# Altium footprint library CQFP_Sq_63P_Side_M.PcbLib: 12 footprints
Each footprint in its own frame and in the unit in brackets; x right, y up, seen from the top. Pads: shape width x height; smd on the part's side, far side on the other; paste and mask are expansions set on the pad; w line width, h text height; cw(c..) or ccw(c..) is an arc to the next point about the centre after c.
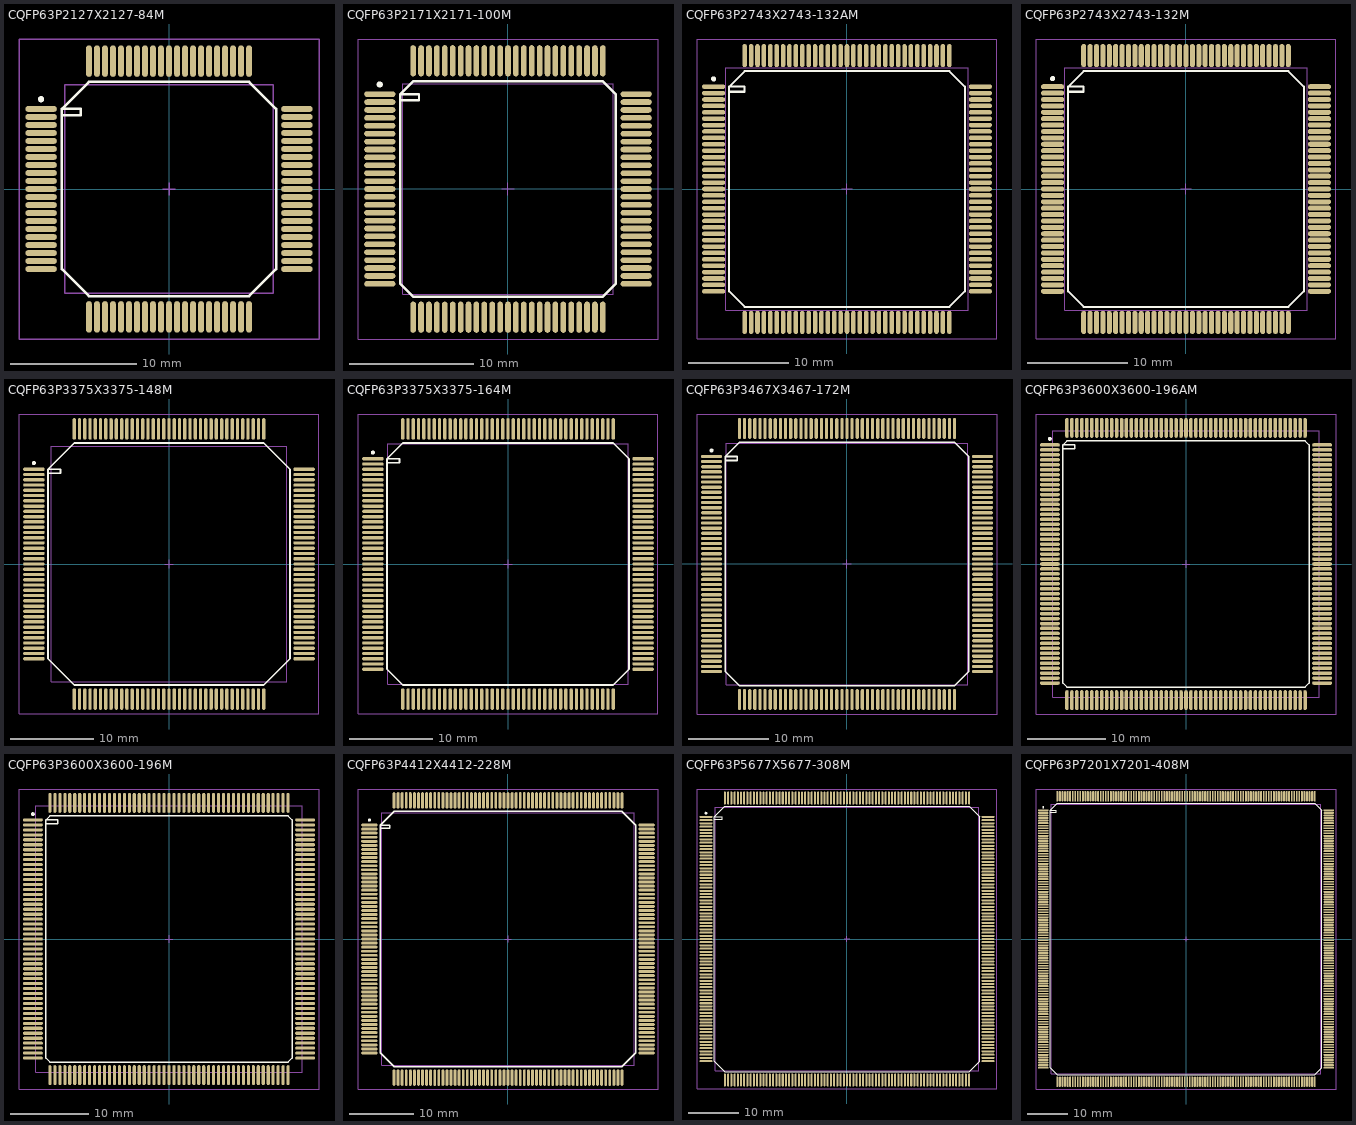
[diagram p0: the footprints below, top view; thin cyan lines are the x and y axes]

## CQFP63P2127X2127-84M [mm] "CQFP, 84-Leads, Body 16.5x16.5mm; Pitch 0.635mm, Gullwing Leadform, IPC Low Density"
height 2.4
pads (84):
  oval 2.5x0.45 smd: 1(-10.15,6.35) 2(-10.15,5.715) 3(-10.15,5.08) 4(-10.15,4.445) 5(-10.15,3.81) 6(-10.15,3.175) 7(-10.15,2.54) 8(-10.15,1.905) 9(-10.15,1.27) 10(-10.15,0.635) 11(-10.15,0) 12(-10.15,-0.635) 13(-10.15,-1.27) 14(-10.15,-1.905) 15(-10.15,-2.54) 16(-10.15,-3.175) 17(-10.15,-3.81) 18(-10.15,-4.445) 19(-10.15,-5.08) 20(-10.15,-5.715) 21(-10.15,-6.35) 43(10.15,-6.35) 44(10.15,-5.715) 45(10.15,-5.08) 46(10.15,-4.445) 47(10.15,-3.81) 48(10.15,-3.175) 49(10.15,-2.54) 50(10.15,-1.905) 51(10.15,-1.27) 52(10.15,-0.635) 53(10.15,0) 54(10.15,0.635) 55(10.15,1.27) 56(10.15,1.905) 57(10.15,2.54) 58(10.15,3.175) 59(10.15,3.81) 60(10.15,4.445) 61(10.15,5.08) 62(10.15,5.715) 63(10.15,6.35)
  oval 0.45x2.5 smd: 22(-6.35,-10.15) 23(-5.715,-10.15) 24(-5.08,-10.15) 25(-4.445,-10.15) 26(-3.81,-10.15) 27(-3.175,-10.15) 28(-2.54,-10.15) 29(-1.905,-10.15) 30(-1.27,-10.15) 31(-0.635,-10.15) 32(0,-10.15) 33(0.635,-10.15) 34(1.27,-10.15) 35(1.905,-10.15) 36(2.54,-10.15) 37(3.175,-10.15) 38(3.81,-10.15) 39(4.445,-10.15) 40(5.08,-10.15) 41(5.715,-10.15) 42(6.35,-10.15) 64(6.35,10.15) 65(5.715,10.15) 66(5.08,10.15) 67(4.445,10.15) 68(3.81,10.15) 69(3.175,10.15) 70(2.54,10.15) 71(1.905,10.15) 72(1.27,10.15) 73(0.635,10.15) 74(0,10.15) 75(-0.635,10.15) 76(-1.27,10.15) 77(-1.905,10.15) 78(-2.54,10.15) 79(-3.175,10.15) 80(-3.81,10.15) 81(-4.445,10.15) 82(-5.08,10.15) 83(-5.715,10.15) 84(-6.35,10.15)
Top Overlay:
  circle w0.25: c-10.15,7.125 r0.125
  lines w0.2: -8.5,5.85 -7,5.85 -7,6.35 -8.5,6.35 ; -8.5,6.35 -6.35,8.5 6.35,8.5 8.5,6.35 8.5,-6.35 6.35,-8.5 -6.35,-8.5 -8.5,-6.35 -8.5,6.35
Mechanical 13:
  lines w0.1: -8.255,-8.255 8.255,-8.255 8.255,8.255 -8.255,8.255 -8.255,-8.255
Mechanical 15:
  lines w0.1: -0.5,0 0.5,0 ; 0,-0.5 0,0.5 ; -11.9,-11.9 11.9,-11.9 11.9,11.9 -11.9,11.9 -11.9,-11.9
3D body: height 2.4, standoff 0, extent -8.255,-8.255 8.255,8.255

## CQFP63P2171X2171-100M [mm] "100-Pin Ceramic Quad Flat Pack 0.635 mm Pitch"
height 3.2
pads (100):
  oval 2.5x0.45 smd: 1(-10.3,7.62) 2(-10.3,6.985) 3(-10.3,6.35) 4(-10.3,5.715) 5(-10.3,5.08) 6(-10.3,4.445) 7(-10.3,3.81) 8(-10.3,3.175) 9(-10.3,2.54) 10(-10.3,1.905) 11(-10.3,1.27) 12(-10.3,0.635) 13(-10.3,0) 14(-10.3,-0.635) 15(-10.3,-1.27) 16(-10.3,-1.905) 17(-10.3,-2.54) 18(-10.3,-3.175) 19(-10.3,-3.81) 20(-10.3,-4.445) 21(-10.3,-5.08) 22(-10.3,-5.715) 23(-10.3,-6.35) 24(-10.3,-6.985) 25(-10.3,-7.62) 51(10.3,-7.62) 52(10.3,-6.985) 53(10.3,-6.35) 54(10.3,-5.715) 55(10.3,-5.08) 56(10.3,-4.445) 57(10.3,-3.81) 58(10.3,-3.175) 59(10.3,-2.54) 60(10.3,-1.905) 61(10.3,-1.27) 62(10.3,-0.635) 63(10.3,0) 64(10.3,0.635) 65(10.3,1.27) 66(10.3,1.905) 67(10.3,2.54) 68(10.3,3.175) 69(10.3,3.81) 70(10.3,4.445) 71(10.3,5.08) 72(10.3,5.715) 73(10.3,6.35) 74(10.3,6.985) 75(10.3,7.62)
  oval 0.45x2.5 smd: 26(-7.62,-10.3) 27(-6.985,-10.3) 28(-6.35,-10.3) 29(-5.715,-10.3) 30(-5.08,-10.3) 31(-4.445,-10.3) 32(-3.81,-10.3) 33(-3.175,-10.3) 34(-2.54,-10.3) 35(-1.905,-10.3) 36(-1.27,-10.3) 37(-0.635,-10.3) 38(0,-10.3) 39(0.635,-10.3) 40(1.27,-10.3) 41(1.905,-10.3) 42(2.54,-10.3) 43(3.175,-10.3) 44(3.81,-10.3) 45(4.445,-10.3) 46(5.08,-10.3) 47(5.715,-10.3) 48(6.35,-10.3) 49(6.985,-10.3) 50(7.62,-10.3) 76(7.62,10.3) 77(6.985,10.3) 78(6.35,10.3) 79(5.715,10.3) 80(5.08,10.3) 81(4.445,10.3) 82(3.81,10.3) 83(3.175,10.3) 84(2.54,10.3) 85(1.905,10.3) 86(1.27,10.3) 87(0.635,10.3) 88(0,10.3) 89(-0.635,10.3) 90(-1.27,10.3) 91(-1.905,10.3) 92(-2.54,10.3) 93(-3.175,10.3) 94(-3.81,10.3) 95(-4.445,10.3) 96(-5.08,10.3) 97(-5.715,10.3) 98(-6.35,10.3) 99(-6.985,10.3) 100(-7.62,10.3)
Top Overlay:
  circle w0.25: c-10.3,8.395 r0.125
  lines w0.2: -8.65,7.12 -7.15,7.12 -7.15,7.62 -8.65,7.62 ; -8.65,7.62 -7.62,8.65 7.62,8.65 8.65,7.62 8.65,-7.62 7.62,-8.65 -7.62,-8.65 -8.65,-7.62 -8.65,7.62
Mechanical 13:
  lines w0.1: -8.475,-8.475 8.475,-8.475 8.475,8.475 -8.475,8.475 -8.475,-8.475
Mechanical 15:
  lines w0.1: -0.5,0 0.5,0 ; 0,-0.5 0,0.5 ; -12.05,-12.05 12.05,-12.05 12.05,12.05 -12.05,12.05 -12.05,-12.05
3D body: height 3.2, standoff 0, extent -8.475,-8.475 8.475,8.475

## CQFP63P2743X2743-132AM [mm] "CQFP, 132-Leads, Body 24x24mm; Pitch 0.635mm, Gullwing Leadform, IPC Low Density"
height 3
pads (132):
  oval 2.3x0.45 smd: 1(-13.25,10.16) 2(-13.25,9.525) 3(-13.25,8.89) 4(-13.25,8.255) 5(-13.25,7.62) 6(-13.25,6.985) 7(-13.25,6.35) 8(-13.25,5.715) 9(-13.25,5.08) 10(-13.25,4.445) 11(-13.25,3.81) 12(-13.25,3.175) 13(-13.25,2.54) 14(-13.25,1.905) 15(-13.25,1.27) 16(-13.25,0.635) 17(-13.25,0) 18(-13.25,-0.635) 19(-13.25,-1.27) 20(-13.25,-1.905) 21(-13.25,-2.54) 22(-13.25,-3.175) 23(-13.25,-3.81) 24(-13.25,-4.445) 25(-13.25,-5.08) 26(-13.25,-5.715) 27(-13.25,-6.35) 28(-13.25,-6.985) 29(-13.25,-7.62) 30(-13.25,-8.255) 31(-13.25,-8.89) 32(-13.25,-9.525) 33(-13.25,-10.16) 67(13.25,-10.16) 68(13.25,-9.525) 69(13.25,-8.89) 70(13.25,-8.255) 71(13.25,-7.62) 72(13.25,-6.985) 73(13.25,-6.35) 74(13.25,-5.715) 75(13.25,-5.08) 76(13.25,-4.445) 77(13.25,-3.81) 78(13.25,-3.175) 79(13.25,-2.54) 80(13.25,-1.905) 81(13.25,-1.27) 82(13.25,-0.635) 83(13.25,0) 84(13.25,0.635) 85(13.25,1.27) 86(13.25,1.905) 87(13.25,2.54) 88(13.25,3.175) 89(13.25,3.81) 90(13.25,4.445) 91(13.25,5.08) 92(13.25,5.715) 93(13.25,6.35) 94(13.25,6.985) 95(13.25,7.62) 96(13.25,8.255) 97(13.25,8.89) 98(13.25,9.525) 99(13.25,10.16)
  oval 0.45x2.3 smd: 34(-10.16,-13.25) 35(-9.525,-13.25) 36(-8.89,-13.25) 37(-8.255,-13.25) 38(-7.62,-13.25) 39(-6.985,-13.25) 40(-6.35,-13.25) 41(-5.715,-13.25) 42(-5.08,-13.25) 43(-4.445,-13.25) 44(-3.81,-13.25) 45(-3.175,-13.25) 46(-2.54,-13.25) 47(-1.905,-13.25) 48(-1.27,-13.25) 49(-0.635,-13.25) 50(0,-13.25) 51(0.635,-13.25) 52(1.27,-13.25) 53(1.905,-13.25) 54(2.54,-13.25) 55(3.175,-13.25) 56(3.81,-13.25) 57(4.445,-13.25) 58(5.08,-13.25) 59(5.715,-13.25) 60(6.35,-13.25) 61(6.985,-13.25) 62(7.62,-13.25) 63(8.255,-13.25) 64(8.89,-13.25) 65(9.525,-13.25) 66(10.16,-13.25) 100(10.16,13.25) 101(9.525,13.25) 102(8.89,13.25) 103(8.255,13.25) 104(7.62,13.25) 105(6.985,13.25) 106(6.35,13.25) 107(5.715,13.25) 108(5.08,13.25) 109(4.445,13.25) 110(3.81,13.25) 111(3.175,13.25) 112(2.54,13.25) 113(1.905,13.25) 114(1.27,13.25) 115(0.635,13.25) 116(0,13.25) 117(-0.635,13.25) 118(-1.27,13.25) 119(-1.905,13.25) 120(-2.54,13.25) 121(-3.175,13.25) 122(-3.81,13.25) 123(-4.445,13.25) 124(-5.08,13.25) 125(-5.715,13.25) 126(-6.35,13.25) 127(-6.985,13.25) 128(-7.62,13.25) 129(-8.255,13.25) 130(-8.89,13.25) 131(-9.525,13.25) 132(-10.16,13.25)
Top Overlay:
  circle w0.25: c-13.25,10.935 r0.125
  lines w0.2: -11.7,9.66 -10.2,9.66 -10.2,10.16 -11.7,10.16 ; -11.7,10.16 -10.16,11.7 10.16,11.7 11.7,10.16 11.7,-10.16 10.16,-11.7 -10.16,-11.7 -11.7,-10.16 -11.7,10.16
Mechanical 13:
  lines w0.1: -12.035,-12.035 12.035,-12.035 12.035,12.035 -12.035,12.035 -12.035,-12.035
Mechanical 15:
  lines w0.1: -0.5,0 0.5,0 ; 0,-0.5 0,0.5 ; -14.9,-14.9 14.9,-14.9 14.9,14.9 -14.9,14.9 -14.9,-14.9
3D body: height 3, standoff 0, extent -12.035,-12.035 12.035,12.035

## CQFP63P2743X2743-132M [mm] "CQFP, 132-Leads, Body 24x24mm; Pitch 0.635mm, Gullwing Leadform, IPC Low Density"
height 3.6
pads (132):
  oval 2.3x0.5 smd: 1(-13.25,10.16) 2(-13.25,9.525) 3(-13.25,8.89) 4(-13.25,8.255) 5(-13.25,7.62) 6(-13.25,6.985) 7(-13.25,6.35) 8(-13.25,5.715) 9(-13.25,5.08) 10(-13.25,4.445) 11(-13.25,3.81) 12(-13.25,3.175) 13(-13.25,2.54) 14(-13.25,1.905) 15(-13.25,1.27) 16(-13.25,0.635) 17(-13.25,0) 18(-13.25,-0.635) 19(-13.25,-1.27) 20(-13.25,-1.905) 21(-13.25,-2.54) 22(-13.25,-3.175) 23(-13.25,-3.81) 24(-13.25,-4.445) 25(-13.25,-5.08) 26(-13.25,-5.715) 27(-13.25,-6.35) 28(-13.25,-6.985) 29(-13.25,-7.62) 30(-13.25,-8.255) 31(-13.25,-8.89) 32(-13.25,-9.525) 33(-13.25,-10.16) 67(13.25,-10.16) 68(13.25,-9.525) 69(13.25,-8.89) 70(13.25,-8.255) 71(13.25,-7.62) 72(13.25,-6.985) 73(13.25,-6.35) 74(13.25,-5.715) 75(13.25,-5.08) 76(13.25,-4.445) 77(13.25,-3.81) 78(13.25,-3.175) 79(13.25,-2.54) 80(13.25,-1.905) 81(13.25,-1.27) 82(13.25,-0.635) 83(13.25,0) 84(13.25,0.635) 85(13.25,1.27) 86(13.25,1.905) 87(13.25,2.54) 88(13.25,3.175) 89(13.25,3.81) 90(13.25,4.445) 91(13.25,5.08) 92(13.25,5.715) 93(13.25,6.35) 94(13.25,6.985) 95(13.25,7.62) 96(13.25,8.255) 97(13.25,8.89) 98(13.25,9.525) 99(13.25,10.16)
  oval 0.5x2.3 smd: 34(-10.16,-13.25) 35(-9.525,-13.25) 36(-8.89,-13.25) 37(-8.255,-13.25) 38(-7.62,-13.25) 39(-6.985,-13.25) 40(-6.35,-13.25) 41(-5.715,-13.25) 42(-5.08,-13.25) 43(-4.445,-13.25) 44(-3.81,-13.25) 45(-3.175,-13.25) 46(-2.54,-13.25) 47(-1.905,-13.25) 48(-1.27,-13.25) 49(-0.635,-13.25) 50(0,-13.25) 51(0.635,-13.25) 52(1.27,-13.25) 53(1.905,-13.25) 54(2.54,-13.25) 55(3.175,-13.25) 56(3.81,-13.25) 57(4.445,-13.25) 58(5.08,-13.25) 59(5.715,-13.25) 60(6.35,-13.25) 61(6.985,-13.25) 62(7.62,-13.25) 63(8.255,-13.25) 64(8.89,-13.25) 65(9.525,-13.25) 66(10.16,-13.25) 100(10.16,13.25) 101(9.525,13.25) 102(8.89,13.25) 103(8.255,13.25) 104(7.62,13.25) 105(6.985,13.25) 106(6.35,13.25) 107(5.715,13.25) 108(5.08,13.25) 109(4.445,13.25) 110(3.81,13.25) 111(3.175,13.25) 112(2.54,13.25) 113(1.905,13.25) 114(1.27,13.25) 115(0.635,13.25) 116(0,13.25) 117(-0.635,13.25) 118(-1.27,13.25) 119(-1.905,13.25) 120(-2.54,13.25) 121(-3.175,13.25) 122(-3.81,13.25) 123(-4.445,13.25) 124(-5.08,13.25) 125(-5.715,13.25) 126(-6.35,13.25) 127(-6.985,13.25) 128(-7.62,13.25) 129(-8.255,13.25) 130(-8.89,13.25) 131(-9.525,13.25) 132(-10.16,13.25)
Top Overlay:
  circle w0.25: c-13.25,10.96 r0.125
  lines w0.2: -11.7,9.66 -10.2,9.66 -10.2,10.16 -11.7,10.16 ; -11.7,10.16 -10.16,11.7 10.16,11.7 11.7,10.16 11.7,-10.16 10.16,-11.7 -10.16,-11.7 -11.7,-10.16 -11.7,10.16
Mechanical 13:
  lines w0.1: -12.035,-12.035 12.035,-12.035 12.035,12.035 -12.035,12.035 -12.035,-12.035
Mechanical 15:
  lines w0.1: -0.5,0 0.5,0 ; 0,-0.5 0,0.5 ; -14.9,-14.9 14.9,-14.9 14.9,14.9 -14.9,14.9 -14.9,-14.9
3D body: height 3.6, standoff 0, extent -12.035,-12.035 12.035,12.035

## CQFP63P3375X3375-148M [mm] "CQFP, 148-Leads, Body 28.5x28.5mm; Pitch 0.635mm, Gullwing Leadform, IPC Low Density"
height 3.1
pads (148):
  oval 2.6x0.4 smd: 1(-16.3,11.43) 2(-16.3,10.795) 3(-16.3,10.16) 4(-16.3,9.525) 5(-16.3,8.89) 6(-16.3,8.255) 7(-16.3,7.62) 8(-16.3,6.985) 9(-16.3,6.35) 10(-16.3,5.715) 11(-16.3,5.08) 12(-16.3,4.445) 13(-16.3,3.81) 14(-16.3,3.175) 15(-16.3,2.54) 16(-16.3,1.905) 17(-16.3,1.27) 18(-16.3,0.635) 19(-16.3,0) 20(-16.3,-0.635) 21(-16.3,-1.27) 22(-16.3,-1.905) 23(-16.3,-2.54) 24(-16.3,-3.175) 25(-16.3,-3.81) 26(-16.3,-4.445) 27(-16.3,-5.08) 28(-16.3,-5.715) 29(-16.3,-6.35) 30(-16.3,-6.985) 31(-16.3,-7.62) 32(-16.3,-8.255) 33(-16.3,-8.89) 34(-16.3,-9.525) 35(-16.3,-10.16) 36(-16.3,-10.795) 37(-16.3,-11.43) 75(16.3,-11.43) 76(16.3,-10.795) 77(16.3,-10.16) 78(16.3,-9.525) 79(16.3,-8.89) 80(16.3,-8.255) 81(16.3,-7.62) 82(16.3,-6.985) 83(16.3,-6.35) 84(16.3,-5.715) 85(16.3,-5.08) 86(16.3,-4.445) 87(16.3,-3.81) 88(16.3,-3.175) 89(16.3,-2.54) 90(16.3,-1.905) 91(16.3,-1.27) 92(16.3,-0.635) 93(16.3,0) 94(16.3,0.635) 95(16.3,1.27) 96(16.3,1.905) 97(16.3,2.54) 98(16.3,3.175) 99(16.3,3.81) 100(16.3,4.445) 101(16.3,5.08) 102(16.3,5.715) 103(16.3,6.35) 104(16.3,6.985) 105(16.3,7.62) 106(16.3,8.255) 107(16.3,8.89) 108(16.3,9.525) 109(16.3,10.16) 110(16.3,10.795) 111(16.3,11.43)
  oval 0.4x2.6 smd: 38(-11.43,-16.3) 39(-10.795,-16.3) 40(-10.16,-16.3) 41(-9.525,-16.3) 42(-8.89,-16.3) 43(-8.255,-16.3) 44(-7.62,-16.3) 45(-6.985,-16.3) 46(-6.35,-16.3) 47(-5.715,-16.3) 48(-5.08,-16.3) 49(-4.445,-16.3) 50(-3.81,-16.3) 51(-3.175,-16.3) 52(-2.54,-16.3) 53(-1.905,-16.3) 54(-1.27,-16.3) 55(-0.635,-16.3) 56(0,-16.3) 57(0.635,-16.3) 58(1.27,-16.3) 59(1.905,-16.3) 60(2.54,-16.3) 61(3.175,-16.3) 62(3.81,-16.3) 63(4.445,-16.3) 64(5.08,-16.3) 65(5.715,-16.3) 66(6.35,-16.3) 67(6.985,-16.3) 68(7.62,-16.3) 69(8.255,-16.3) 70(8.89,-16.3) 71(9.525,-16.3) 72(10.16,-16.3) 73(10.795,-16.3) 74(11.43,-16.3) 112(11.43,16.3) 113(10.795,16.3) 114(10.16,16.3) 115(9.525,16.3) 116(8.89,16.3) 117(8.255,16.3) 118(7.62,16.3) 119(6.985,16.3) 120(6.35,16.3) 121(5.715,16.3) 122(5.08,16.3) 123(4.445,16.3) 124(3.81,16.3) 125(3.175,16.3) 126(2.54,16.3) 127(1.905,16.3) 128(1.27,16.3) 129(0.635,16.3) 130(0,16.3) 131(-0.635,16.3) 132(-1.27,16.3) 133(-1.905,16.3) 134(-2.54,16.3) 135(-3.175,16.3) 136(-3.81,16.3) 137(-4.445,16.3) 138(-5.08,16.3) 139(-5.715,16.3) 140(-6.35,16.3) 141(-6.985,16.3) 142(-7.62,16.3) 143(-8.255,16.3) 144(-8.89,16.3) 145(-9.525,16.3) 146(-10.16,16.3) 147(-10.795,16.3) 148(-11.43,16.3)
Top Overlay:
  circle w0.25: c-16.3,12.18 r0.125
  lines w0.2: -14.6,10.93 -13.1,10.93 -13.1,11.43 -14.6,11.43 ; -14.6,11.43 -11.43,14.6 11.43,14.6 14.6,11.43 14.6,-11.43 11.43,-14.6 -11.43,-14.6 -14.6,-11.43 -14.6,11.43
Mechanical 13:
  lines w0.1: -14.23,-14.23 14.23,-14.23 14.23,14.23 -14.23,14.23 -14.23,-14.23
Mechanical 15:
  lines w0.1: -0.5,0 0.5,0 ; 0,-0.5 0,0.5 ; -18.1,-18.1 18.1,-18.1 18.1,18.1 -18.1,18.1 -18.1,-18.1
3D body: height 3.1, standoff 0, extent -14.23,-14.23 14.23,14.23

## CQFP63P3375X3375-164M [mm] "CQFP, 164-Leads, Body 29x29mm; Pitch 0.635mm, Gullwing Leadform, IPC Low Density"
height 3.4
pads (164):
  oval 2.6x0.4 smd: 1(-16.3,12.7) 2(-16.3,12.065) 3(-16.3,11.43) 4(-16.3,10.795) 5(-16.3,10.16) 6(-16.3,9.525) 7(-16.3,8.89) 8(-16.3,8.255) 9(-16.3,7.62) 10(-16.3,6.985) 11(-16.3,6.35) 12(-16.3,5.715) 13(-16.3,5.08) 14(-16.3,4.445) 15(-16.3,3.81) 16(-16.3,3.175) 17(-16.3,2.54) 18(-16.3,1.905) 19(-16.3,1.27) 20(-16.3,0.635) 21(-16.3,0) 22(-16.3,-0.635) 23(-16.3,-1.27) 24(-16.3,-1.905) 25(-16.3,-2.54) 26(-16.3,-3.175) 27(-16.3,-3.81) 28(-16.3,-4.445) 29(-16.3,-5.08) 30(-16.3,-5.715) 31(-16.3,-6.35) 32(-16.3,-6.985) 33(-16.3,-7.62) 34(-16.3,-8.255) 35(-16.3,-8.89) 36(-16.3,-9.525) 37(-16.3,-10.16) 38(-16.3,-10.795) 39(-16.3,-11.43) 40(-16.3,-12.065) 41(-16.3,-12.7) 83(16.3,-12.7) 84(16.3,-12.065) 85(16.3,-11.43) 86(16.3,-10.795) 87(16.3,-10.16) 88(16.3,-9.525) 89(16.3,-8.89) 90(16.3,-8.255) 91(16.3,-7.62) 92(16.3,-6.985) 93(16.3,-6.35) 94(16.3,-5.715) 95(16.3,-5.08) 96(16.3,-4.445) 97(16.3,-3.81) 98(16.3,-3.175) 99(16.3,-2.54) 100(16.3,-1.905) 101(16.3,-1.27) 102(16.3,-0.635) 103(16.3,0) 104(16.3,0.635) 105(16.3,1.27) 106(16.3,1.905) 107(16.3,2.54) 108(16.3,3.175) 109(16.3,3.81) 110(16.3,4.445) 111(16.3,5.08) 112(16.3,5.715) 113(16.3,6.35) 114(16.3,6.985) 115(16.3,7.62) 116(16.3,8.255) 117(16.3,8.89) 118(16.3,9.525) 119(16.3,10.16) 120(16.3,10.795) 121(16.3,11.43) 122(16.3,12.065) 123(16.3,12.7)
  oval 0.4x2.6 smd: 42(-12.7,-16.3) 43(-12.065,-16.3) 44(-11.43,-16.3) 45(-10.795,-16.3) 46(-10.16,-16.3) 47(-9.525,-16.3) 48(-8.89,-16.3) 49(-8.255,-16.3) 50(-7.62,-16.3) 51(-6.985,-16.3) 52(-6.35,-16.3) 53(-5.715,-16.3) 54(-5.08,-16.3) 55(-4.445,-16.3) 56(-3.81,-16.3) 57(-3.175,-16.3) 58(-2.54,-16.3) 59(-1.905,-16.3) 60(-1.27,-16.3) 61(-0.635,-16.3) 62(0,-16.3) 63(0.635,-16.3) 64(1.27,-16.3) 65(1.905,-16.3) 66(2.54,-16.3) 67(3.175,-16.3) 68(3.81,-16.3) 69(4.445,-16.3) 70(5.08,-16.3) 71(5.715,-16.3) 72(6.35,-16.3) 73(6.985,-16.3) 74(7.62,-16.3) 75(8.255,-16.3) 76(8.89,-16.3) 77(9.525,-16.3) 78(10.16,-16.3) 79(10.795,-16.3) 80(11.43,-16.3) 81(12.065,-16.3) 82(12.7,-16.3) 124(12.7,16.3) 125(12.065,16.3) 126(11.43,16.3) 127(10.795,16.3) 128(10.16,16.3) 129(9.525,16.3) 130(8.89,16.3) 131(8.255,16.3) 132(7.62,16.3) 133(6.985,16.3) 134(6.35,16.3) 135(5.715,16.3) 136(5.08,16.3) 137(4.445,16.3) 138(3.81,16.3) 139(3.175,16.3) 140(2.54,16.3) 141(1.905,16.3) 142(1.27,16.3) 143(0.635,16.3) 144(0,16.3) 145(-0.635,16.3) 146(-1.27,16.3) 147(-1.905,16.3) 148(-2.54,16.3) 149(-3.175,16.3) 150(-3.81,16.3) 151(-4.445,16.3) 152(-5.08,16.3) 153(-5.715,16.3) 154(-6.35,16.3) 155(-6.985,16.3) 156(-7.62,16.3) 157(-8.255,16.3) 158(-8.89,16.3) 159(-9.525,16.3) 160(-10.16,16.3) 161(-10.795,16.3) 162(-11.43,16.3) 163(-12.065,16.3) 164(-12.7,16.3)
Top Overlay:
  circle w0.25: c-16.3,13.45 r0.125
  lines w0.2: -14.6,12.2 -13.1,12.2 -13.1,12.7 -14.6,12.7 ; -14.6,12.7 -12.7,14.6 12.7,14.6 14.6,12.7 14.6,-12.7 12.7,-14.6 -12.7,-14.6 -14.6,-12.7 -14.6,12.7
Mechanical 13:
  lines w0.1: -14.525,-14.525 14.525,-14.525 14.525,14.525 -14.525,14.525 -14.525,-14.525
Mechanical 15:
  lines w0.1: -0.5,0 0.5,0 ; 0,-0.5 0,0.5 ; -18.1,-18.1 18.1,-18.1 18.1,18.1 -18.1,18.1 -18.1,-18.1
3D body: height 3.4, standoff 0, extent -14.525,-14.525 14.525,14.525

## CQFP63P3467X3467-172M [mm] "CQFP, 172-Leads, Body 30x30mm; Pitch 0.635mm, Gullwing Leadform, IPC Low Density"
height 3
pads (172):
  oval 2.6x0.4 smd: 1(-16.8,13.335) 2(-16.8,12.7) 3(-16.8,12.065) 4(-16.8,11.43) 5(-16.8,10.795) 6(-16.8,10.16) 7(-16.8,9.525) 8(-16.8,8.89) 9(-16.8,8.255) 10(-16.8,7.62) 11(-16.8,6.985) 12(-16.8,6.35) 13(-16.8,5.715) 14(-16.8,5.08) 15(-16.8,4.445) 16(-16.8,3.81) 17(-16.8,3.175) 18(-16.8,2.54) 19(-16.8,1.905) 20(-16.8,1.27) 21(-16.8,0.635) 22(-16.8,0) 23(-16.8,-0.635) 24(-16.8,-1.27) 25(-16.8,-1.905) 26(-16.8,-2.54) 27(-16.8,-3.175) 28(-16.8,-3.81) 29(-16.8,-4.445) 30(-16.8,-5.08) 31(-16.8,-5.715) 32(-16.8,-6.35) 33(-16.8,-6.985) 34(-16.8,-7.62) 35(-16.8,-8.255) 36(-16.8,-8.89) 37(-16.8,-9.525) 38(-16.8,-10.16) 39(-16.8,-10.795) 40(-16.8,-11.43) 41(-16.8,-12.065) 42(-16.8,-12.7) 43(-16.8,-13.335) 87(16.8,-13.335) 88(16.8,-12.7) 89(16.8,-12.065) 90(16.8,-11.43) 91(16.8,-10.795) 92(16.8,-10.16) 93(16.8,-9.525) 94(16.8,-8.89) 95(16.8,-8.255) 96(16.8,-7.62) 97(16.8,-6.985) 98(16.8,-6.35) 99(16.8,-5.715) 100(16.8,-5.08) 101(16.8,-4.445) 102(16.8,-3.81) 103(16.8,-3.175) 104(16.8,-2.54) 105(16.8,-1.905) 106(16.8,-1.27) 107(16.8,-0.635) 108(16.8,0) 109(16.8,0.635) 110(16.8,1.27) 111(16.8,1.905) 112(16.8,2.54) 113(16.8,3.175) 114(16.8,3.81) 115(16.8,4.445) 116(16.8,5.08) 117(16.8,5.715) 118(16.8,6.35) 119(16.8,6.985) 120(16.8,7.62) 121(16.8,8.255) 122(16.8,8.89) 123(16.8,9.525) 124(16.8,10.16) 125(16.8,10.795) 126(16.8,11.43) 127(16.8,12.065) 128(16.8,12.7) 129(16.8,13.335)
  oval 0.4x2.6 smd: 44(-13.335,-16.8) 45(-12.7,-16.8) 46(-12.065,-16.8) 47(-11.43,-16.8) 48(-10.795,-16.8) 49(-10.16,-16.8) 50(-9.525,-16.8) 51(-8.89,-16.8) 52(-8.255,-16.8) 53(-7.62,-16.8) 54(-6.985,-16.8) 55(-6.35,-16.8) 56(-5.715,-16.8) 57(-5.08,-16.8) 58(-4.445,-16.8) 59(-3.81,-16.8) 60(-3.175,-16.8) 61(-2.54,-16.8) 62(-1.905,-16.8) 63(-1.27,-16.8) 64(-0.635,-16.8) 65(0,-16.8) 66(0.635,-16.8) 67(1.27,-16.8) 68(1.905,-16.8) 69(2.54,-16.8) 70(3.175,-16.8) 71(3.81,-16.8) 72(4.445,-16.8) 73(5.08,-16.8) 74(5.715,-16.8) 75(6.35,-16.8) 76(6.985,-16.8) 77(7.62,-16.8) 78(8.255,-16.8) 79(8.89,-16.8) 80(9.525,-16.8) 81(10.16,-16.8) 82(10.795,-16.8) 83(11.43,-16.8) 84(12.065,-16.8) 85(12.7,-16.8) 86(13.335,-16.8) 130(13.335,16.8) 131(12.7,16.8) 132(12.065,16.8) 133(11.43,16.8) 134(10.795,16.8) 135(10.16,16.8) 136(9.525,16.8) 137(8.89,16.8) 138(8.255,16.8) 139(7.62,16.8) 140(6.985,16.8) 141(6.35,16.8) 142(5.715,16.8) 143(5.08,16.8) 144(4.445,16.8) 145(3.81,16.8) 146(3.175,16.8) 147(2.54,16.8) 148(1.905,16.8) 149(1.27,16.8) 150(0.635,16.8) 151(0,16.8) 152(-0.635,16.8) 153(-1.27,16.8) 154(-1.905,16.8) 155(-2.54,16.8) 156(-3.175,16.8) 157(-3.81,16.8) 158(-4.445,16.8) 159(-5.08,16.8) 160(-5.715,16.8) 161(-6.35,16.8) 162(-6.985,16.8) 163(-7.62,16.8) 164(-8.255,16.8) 165(-8.89,16.8) 166(-9.525,16.8) 167(-10.16,16.8) 168(-10.795,16.8) 169(-11.43,16.8) 170(-12.065,16.8) 171(-12.7,16.8) 172(-13.335,16.8)
Top Overlay:
  circle w0.25: c-16.8,14.085 r0.125
  lines w0.2: -15.1,12.835 -13.6,12.835 -13.6,13.335 -15.1,13.335 ; -15.1,13.335 -13.335,15.1 13.335,15.1 15.1,13.335 15.1,-13.335 13.335,-15.1 -13.335,-15.1 -15.1,-13.335 -15.1,13.335
Mechanical 13:
  lines w0.1: -14.985,-14.985 14.985,-14.985 14.985,14.985 -14.985,14.985 -14.985,-14.985
Mechanical 15:
  lines w0.1: -0.5,0 0.5,0 ; 0,-0.5 0,0.5 ; -18.6,-18.6 18.6,-18.6 18.6,18.6 -18.6,18.6 -18.6,-18.6
3D body: height 3, standoff 0, extent -14.985,-14.985 14.985,14.985

## CQFP63P3600X3600-196AM [mm] "196-Pin Ceramic Quad Flat Pack 0.635 mm Pitch"
height 2.7
pads (196):
  oval 2.55x0.45 smd: 1(-17.425,15.24) 2(-17.425,14.605) 3(-17.425,13.97) 4(-17.425,13.335) 5(-17.425,12.7) 6(-17.425,12.065) 7(-17.425,11.43) 8(-17.425,10.795) 9(-17.425,10.16) 10(-17.425,9.525) 11(-17.425,8.89) 12(-17.425,8.255) 13(-17.425,7.62) 14(-17.425,6.985) 15(-17.425,6.35) 16(-17.425,5.715) 17(-17.425,5.08) 18(-17.425,4.445) 19(-17.425,3.81) 20(-17.425,3.175) 21(-17.425,2.54) 22(-17.425,1.905) 23(-17.425,1.27) 24(-17.425,0.635) 25(-17.425,0) 26(-17.425,-0.635) 27(-17.425,-1.27) 28(-17.425,-1.905) 29(-17.425,-2.54) 30(-17.425,-3.175) 31(-17.425,-3.81) 32(-17.425,-4.445) 33(-17.425,-5.08) 34(-17.425,-5.715) 35(-17.425,-6.35) 36(-17.425,-6.985) 37(-17.425,-7.62) 38(-17.425,-8.255) 39(-17.425,-8.89) 40(-17.425,-9.525) 41(-17.425,-10.16) 42(-17.425,-10.795) 43(-17.425,-11.43) 44(-17.425,-12.065) 45(-17.425,-12.7) 46(-17.425,-13.335) 47(-17.425,-13.97) 48(-17.425,-14.605) 49(-17.425,-15.24) 99(17.425,-15.24) 100(17.425,-14.605) 101(17.425,-13.97) 102(17.425,-13.335) 103(17.425,-12.7) 104(17.425,-12.065) 105(17.425,-11.43) 106(17.425,-10.795) 107(17.425,-10.16) 108(17.425,-9.525) 109(17.425,-8.89) 110(17.425,-8.255) 111(17.425,-7.62) 112(17.425,-6.985) 113(17.425,-6.35) 114(17.425,-5.715) 115(17.425,-5.08) 116(17.425,-4.445) 117(17.425,-3.81) 118(17.425,-3.175) 119(17.425,-2.54) 120(17.425,-1.905) 121(17.425,-1.27) 122(17.425,-0.635) 123(17.425,0) 124(17.425,0.635) 125(17.425,1.27) 126(17.425,1.905) 127(17.425,2.54) 128(17.425,3.175) 129(17.425,3.81) 130(17.425,4.445) 131(17.425,5.08) 132(17.425,5.715) 133(17.425,6.35) 134(17.425,6.985) 135(17.425,7.62) 136(17.425,8.255) 137(17.425,8.89) 138(17.425,9.525) 139(17.425,10.16) 140(17.425,10.795) 141(17.425,11.43) 142(17.425,12.065) 143(17.425,12.7) 144(17.425,13.335) 145(17.425,13.97) 146(17.425,14.605) 147(17.425,15.24)
  oval 0.45x2.55 smd: 50(-15.24,-17.425) 51(-14.605,-17.425) 52(-13.97,-17.425) 53(-13.335,-17.425) 54(-12.7,-17.425) 55(-12.065,-17.425) 56(-11.43,-17.425) 57(-10.795,-17.425) 58(-10.16,-17.425) 59(-9.525,-17.425) 60(-8.89,-17.425) 61(-8.255,-17.425) 62(-7.62,-17.425) 63(-6.985,-17.425) 64(-6.35,-17.425) 65(-5.715,-17.425) 66(-5.08,-17.425) 67(-4.445,-17.425) 68(-3.81,-17.425) 69(-3.175,-17.425) 70(-2.54,-17.425) 71(-1.905,-17.425) 72(-1.27,-17.425) 73(-0.635,-17.425) 74(0,-17.425) 75(0.635,-17.425) 76(1.27,-17.425) 77(1.905,-17.425) 78(2.54,-17.425) 79(3.175,-17.425) 80(3.81,-17.425) 81(4.445,-17.425) 82(5.08,-17.425) 83(5.715,-17.425) 84(6.35,-17.425) 85(6.985,-17.425) 86(7.62,-17.425) 87(8.255,-17.425) 88(8.89,-17.425) 89(9.525,-17.425) 90(10.16,-17.425) 91(10.795,-17.425) 92(11.43,-17.425) 93(12.065,-17.425) 94(12.7,-17.425) 95(13.335,-17.425) 96(13.97,-17.425) 97(14.605,-17.425) 98(15.24,-17.425) 148(15.24,17.425) 149(14.605,17.425) 150(13.97,17.425) 151(13.335,17.425) 152(12.7,17.425) 153(12.065,17.425) 154(11.43,17.425) 155(10.795,17.425) 156(10.16,17.425) 157(9.525,17.425) 158(8.89,17.425) 159(8.255,17.425) 160(7.62,17.425) 161(6.985,17.425) 162(6.35,17.425) 163(5.715,17.425) 164(5.08,17.425) 165(4.445,17.425) 166(3.81,17.425) 167(3.175,17.425) 168(2.54,17.425) 169(1.905,17.425) 170(1.27,17.425) 171(0.635,17.425) 172(0,17.425) 173(-0.635,17.425) 174(-1.27,17.425) 175(-1.905,17.425) 176(-2.54,17.425) 177(-3.175,17.425) 178(-3.81,17.425) 179(-4.445,17.425) 180(-5.08,17.425) 181(-5.715,17.425) 182(-6.35,17.425) 183(-6.985,17.425) 184(-7.62,17.425) 185(-8.255,17.425) 186(-8.89,17.425) 187(-9.525,17.425) 188(-10.16,17.425) 189(-10.795,17.425) 190(-11.43,17.425) 191(-12.065,17.425) 192(-12.7,17.425) 193(-13.335,17.425) 194(-13.97,17.425) 195(-14.605,17.425) 196(-15.24,17.425)
Top Overlay:
  circle w0.25: c-17.425,16.015 r0.125
  lines w0.2: -15.75,14.74 -14.25,14.74 -14.25,15.24 -15.75,15.24 ; -15.75,15.24 -15.24,15.75 15.24,15.75 15.75,15.24 15.75,-15.24 15.24,-15.75 -15.24,-15.75 -15.75,-15.24 -15.75,15.24
Mechanical 13:
  lines w0.1: -17.025,-17.025 17.025,-17.025 17.025,17.025 -17.025,17.025 -17.025,-17.025
Mechanical 15:
  lines w0.1: -0.5,0 0.5,0 ; 0,-0.5 0,0.5 ; -19.2,-19.2 19.2,-19.2 19.2,19.2 -19.2,19.2 -19.2,-19.2
3D body: height 2.7, standoff 0, extent -17.025,-17.025 17.025,17.025

## CQFP63P3600X3600-196M [mm] "CQFP, 196-Leads, Body 34x34mm; Pitch 0.635mm, Gullwing Leadform, IPC Low Density"
height 2.7
pads (196):
  oval 2.55x0.4 smd: 1(-17.425,15.24) 2(-17.425,14.605) 3(-17.425,13.97) 4(-17.425,13.335) 5(-17.425,12.7) 6(-17.425,12.065) 7(-17.425,11.43) 8(-17.425,10.795) 9(-17.425,10.16) 10(-17.425,9.525) 11(-17.425,8.89) 12(-17.425,8.255) 13(-17.425,7.62) 14(-17.425,6.985) 15(-17.425,6.35) 16(-17.425,5.715) 17(-17.425,5.08) 18(-17.425,4.445) 19(-17.425,3.81) 20(-17.425,3.175) 21(-17.425,2.54) 22(-17.425,1.905) 23(-17.425,1.27) 24(-17.425,0.635) 25(-17.425,0) 26(-17.425,-0.635) 27(-17.425,-1.27) 28(-17.425,-1.905) 29(-17.425,-2.54) 30(-17.425,-3.175) 31(-17.425,-3.81) 32(-17.425,-4.445) 33(-17.425,-5.08) 34(-17.425,-5.715) 35(-17.425,-6.35) 36(-17.425,-6.985) 37(-17.425,-7.62) 38(-17.425,-8.255) 39(-17.425,-8.89) 40(-17.425,-9.525) 41(-17.425,-10.16) 42(-17.425,-10.795) 43(-17.425,-11.43) 44(-17.425,-12.065) 45(-17.425,-12.7) 46(-17.425,-13.335) 47(-17.425,-13.97) 48(-17.425,-14.605) 49(-17.425,-15.24) 99(17.425,-15.24) 100(17.425,-14.605) 101(17.425,-13.97) 102(17.425,-13.335) 103(17.425,-12.7) 104(17.425,-12.065) 105(17.425,-11.43) 106(17.425,-10.795) 107(17.425,-10.16) 108(17.425,-9.525) 109(17.425,-8.89) 110(17.425,-8.255) 111(17.425,-7.62) 112(17.425,-6.985) 113(17.425,-6.35) 114(17.425,-5.715) 115(17.425,-5.08) 116(17.425,-4.445) 117(17.425,-3.81) 118(17.425,-3.175) 119(17.425,-2.54) 120(17.425,-1.905) 121(17.425,-1.27) 122(17.425,-0.635) 123(17.425,0) 124(17.425,0.635) 125(17.425,1.27) 126(17.425,1.905) 127(17.425,2.54) 128(17.425,3.175) 129(17.425,3.81) 130(17.425,4.445) 131(17.425,5.08) 132(17.425,5.715) 133(17.425,6.35) 134(17.425,6.985) 135(17.425,7.62) 136(17.425,8.255) 137(17.425,8.89) 138(17.425,9.525) 139(17.425,10.16) 140(17.425,10.795) 141(17.425,11.43) 142(17.425,12.065) 143(17.425,12.7) 144(17.425,13.335) 145(17.425,13.97) 146(17.425,14.605) 147(17.425,15.24)
  oval 0.4x2.55 smd: 50(-15.24,-17.425) 51(-14.605,-17.425) 52(-13.97,-17.425) 53(-13.335,-17.425) 54(-12.7,-17.425) 55(-12.065,-17.425) 56(-11.43,-17.425) 57(-10.795,-17.425) 58(-10.16,-17.425) 59(-9.525,-17.425) 60(-8.89,-17.425) 61(-8.255,-17.425) 62(-7.62,-17.425) 63(-6.985,-17.425) 64(-6.35,-17.425) 65(-5.715,-17.425) 66(-5.08,-17.425) 67(-4.445,-17.425) 68(-3.81,-17.425) 69(-3.175,-17.425) 70(-2.54,-17.425) 71(-1.905,-17.425) 72(-1.27,-17.425) 73(-0.635,-17.425) 74(0,-17.425) 75(0.635,-17.425) 76(1.27,-17.425) 77(1.905,-17.425) 78(2.54,-17.425) 79(3.175,-17.425) 80(3.81,-17.425) 81(4.445,-17.425) 82(5.08,-17.425) 83(5.715,-17.425) 84(6.35,-17.425) 85(6.985,-17.425) 86(7.62,-17.425) 87(8.255,-17.425) 88(8.89,-17.425) 89(9.525,-17.425) 90(10.16,-17.425) 91(10.795,-17.425) 92(11.43,-17.425) 93(12.065,-17.425) 94(12.7,-17.425) 95(13.335,-17.425) 96(13.97,-17.425) 97(14.605,-17.425) 98(15.24,-17.425) 148(15.24,17.425) 149(14.605,17.425) 150(13.97,17.425) 151(13.335,17.425) 152(12.7,17.425) 153(12.065,17.425) 154(11.43,17.425) 155(10.795,17.425) 156(10.16,17.425) 157(9.525,17.425) 158(8.89,17.425) 159(8.255,17.425) 160(7.62,17.425) 161(6.985,17.425) 162(6.35,17.425) 163(5.715,17.425) 164(5.08,17.425) 165(4.445,17.425) 166(3.81,17.425) 167(3.175,17.425) 168(2.54,17.425) 169(1.905,17.425) 170(1.27,17.425) 171(0.635,17.425) 172(0,17.425) 173(-0.635,17.425) 174(-1.27,17.425) 175(-1.905,17.425) 176(-2.54,17.425) 177(-3.175,17.425) 178(-3.81,17.425) 179(-4.445,17.425) 180(-5.08,17.425) 181(-5.715,17.425) 182(-6.35,17.425) 183(-6.985,17.425) 184(-7.62,17.425) 185(-8.255,17.425) 186(-8.89,17.425) 187(-9.525,17.425) 188(-10.16,17.425) 189(-10.795,17.425) 190(-11.43,17.425) 191(-12.065,17.425) 192(-12.7,17.425) 193(-13.335,17.425) 194(-13.97,17.425) 195(-14.605,17.425) 196(-15.24,17.425)
Top Overlay:
  circle w0.25: c-17.425,15.99 r0.125
  lines w0.2: -15.75,14.74 -14.25,14.74 -14.25,15.24 -15.75,15.24 ; -15.75,15.24 -15.24,15.75 15.24,15.75 15.75,15.24 15.75,-15.24 15.24,-15.75 -15.24,-15.75 -15.75,-15.24 -15.75,15.24
Mechanical 13:
  lines w0.1: -17.025,-17.025 17.025,-17.025 17.025,17.025 -17.025,17.025 -17.025,-17.025
Mechanical 15:
  lines w0.1: -0.5,0 0.5,0 ; 0,-0.5 0,0.5 ; -19.2,-19.2 19.2,-19.2 19.2,19.2 -19.2,19.2 -19.2,-19.2
3D body: height 2.7, standoff 0, extent -17.025,-17.025 17.025,17.025

## CQFP63P4412X4412-228M [mm] "228-Pin Ceramic Brazed Quad Flat Pack (CB228)"
height 3.4
pads (228):
  oval 2.55x0.45 smd: 1(-21.625,17.78) 2(-21.625,17.145) 3(-21.625,16.51) 4(-21.625,15.875) 5(-21.625,15.24) 6(-21.625,14.605) 7(-21.625,13.97) 8(-21.625,13.335) 9(-21.625,12.7) 10(-21.625,12.065) 11(-21.625,11.43) 12(-21.625,10.795) 13(-21.625,10.16) 14(-21.625,9.525) 15(-21.625,8.89) 16(-21.625,8.255) 17(-21.625,7.62) 18(-21.625,6.985) 19(-21.625,6.35) 20(-21.625,5.715) 21(-21.625,5.08) 22(-21.625,4.445) 23(-21.625,3.81) 24(-21.625,3.175) 25(-21.625,2.54) 26(-21.625,1.905) 27(-21.625,1.27) 28(-21.625,0.635) 29(-21.625,0) 30(-21.625,-0.635) 31(-21.625,-1.27) 32(-21.625,-1.905) 33(-21.625,-2.54) 34(-21.625,-3.175) 35(-21.625,-3.81) 36(-21.625,-4.445) 37(-21.625,-5.08) 38(-21.625,-5.715) 39(-21.625,-6.35) 40(-21.625,-6.985) 41(-21.625,-7.62) 42(-21.625,-8.255) 43(-21.625,-8.89) 44(-21.625,-9.525) 45(-21.625,-10.16) 46(-21.625,-10.795) 47(-21.625,-11.43) 48(-21.625,-12.065) 49(-21.625,-12.7) 50(-21.625,-13.335) 51(-21.625,-13.97) 52(-21.625,-14.605) 53(-21.625,-15.24) 54(-21.625,-15.875) 55(-21.625,-16.51) 56(-21.625,-17.145) 57(-21.625,-17.78) 115(21.625,-17.78) 116(21.625,-17.145) 117(21.625,-16.51) 118(21.625,-15.875) 119(21.625,-15.24) 120(21.625,-14.605) 121(21.625,-13.97) 122(21.625,-13.335) 123(21.625,-12.7) 124(21.625,-12.065) 125(21.625,-11.43) 126(21.625,-10.795) 127(21.625,-10.16) 128(21.625,-9.525) 129(21.625,-8.89) 130(21.625,-8.255) 131(21.625,-7.62) 132(21.625,-6.985) 133(21.625,-6.35) 134(21.625,-5.715) 135(21.625,-5.08) 136(21.625,-4.445) 137(21.625,-3.81) 138(21.625,-3.175) 139(21.625,-2.54) 140(21.625,-1.905) 141(21.625,-1.27) 142(21.625,-0.635) 143(21.625,0) 144(21.625,0.635) 145(21.625,1.27) 146(21.625,1.905) 147(21.625,2.54) 148(21.625,3.175) 149(21.625,3.81) 150(21.625,4.445) 151(21.625,5.08) 152(21.625,5.715) 153(21.625,6.35) 154(21.625,6.985) 155(21.625,7.62) 156(21.625,8.255) 157(21.625,8.89) 158(21.625,9.525) 159(21.625,10.16) 160(21.625,10.795) 161(21.625,11.43) 162(21.625,12.065) 163(21.625,12.7) 164(21.625,13.335) 165(21.625,13.97) 166(21.625,14.605) 167(21.625,15.24) 168(21.625,15.875) 169(21.625,16.51) 170(21.625,17.145) 171(21.625,17.78)
  oval 0.45x2.55 smd: 58(-17.78,-21.625) 59(-17.145,-21.625) 60(-16.51,-21.625) 61(-15.875,-21.625) 62(-15.24,-21.625) 63(-14.605,-21.625) 64(-13.97,-21.625) 65(-13.335,-21.625) 66(-12.7,-21.625) 67(-12.065,-21.625) 68(-11.43,-21.625) 69(-10.795,-21.625) 70(-10.16,-21.625) 71(-9.525,-21.625) 72(-8.89,-21.625) 73(-8.255,-21.625) 74(-7.62,-21.625) 75(-6.985,-21.625) 76(-6.35,-21.625) 77(-5.715,-21.625) 78(-5.08,-21.625) 79(-4.445,-21.625) 80(-3.81,-21.625) 81(-3.175,-21.625) 82(-2.54,-21.625) 83(-1.905,-21.625) 84(-1.27,-21.625) 85(-0.635,-21.625) 86(0,-21.625) 87(0.635,-21.625) 88(1.27,-21.625) 89(1.905,-21.625) 90(2.54,-21.625) 91(3.175,-21.625) 92(3.81,-21.625) 93(4.445,-21.625) 94(5.08,-21.625) 95(5.715,-21.625) 96(6.35,-21.625) 97(6.985,-21.625) 98(7.62,-21.625) 99(8.255,-21.625) 100(8.89,-21.625) 101(9.525,-21.625) 102(10.16,-21.625) 103(10.795,-21.625) 104(11.43,-21.625) 105(12.065,-21.625) 106(12.7,-21.625) 107(13.335,-21.625) 108(13.97,-21.625) 109(14.605,-21.625) 110(15.24,-21.625) 111(15.875,-21.625) 112(16.51,-21.625) 113(17.145,-21.625) 114(17.78,-21.625) 172(17.78,21.625) 173(17.145,21.625) 174(16.51,21.625) 175(15.875,21.625) 176(15.24,21.625) 177(14.605,21.625) 178(13.97,21.625) 179(13.335,21.625) 180(12.7,21.625) 181(12.065,21.625) 182(11.43,21.625) 183(10.795,21.625) 184(10.16,21.625) 185(9.525,21.625) 186(8.89,21.625) 187(8.255,21.625) 188(7.62,21.625) 189(6.985,21.625) 190(6.35,21.625) 191(5.715,21.625) 192(5.08,21.625) 193(4.445,21.625) 194(3.81,21.625) 195(3.175,21.625) 196(2.54,21.625) 197(1.905,21.625) 198(1.27,21.625) 199(0.635,21.625) 200(0,21.625) 201(-0.635,21.625) 202(-1.27,21.625) 203(-1.905,21.625) 204(-2.54,21.625) 205(-3.175,21.625) 206(-3.81,21.625) 207(-4.445,21.625) 208(-5.08,21.625) 209(-5.715,21.625) 210(-6.35,21.625) 211(-6.985,21.625) 212(-7.62,21.625) 213(-8.255,21.625) 214(-8.89,21.625) 215(-9.525,21.625) 216(-10.16,21.625) 217(-10.795,21.625) 218(-11.43,21.625) 219(-12.065,21.625) 220(-12.7,21.625) 221(-13.335,21.625) 222(-13.97,21.625) 223(-14.605,21.625) 224(-15.24,21.625) 225(-15.875,21.625) 226(-16.51,21.625) 227(-17.145,21.625) 228(-17.78,21.625)
Top Overlay:
  circle w0.25: c-21.625,18.555 r0.125
  lines w0.2: -19.95,17.28 -18.45,17.28 -18.45,17.78 -19.95,17.78 ; -19.95,17.78 -17.78,19.95 17.78,19.95 19.95,17.78 19.95,-17.78 17.78,-19.95 -17.78,-19.95 -19.95,-17.78 -19.95,17.78
Mechanical 13:
  lines w0.1: -19.71,-19.71 19.71,-19.71 19.71,19.71 -19.71,19.71 -19.71,-19.71
Mechanical 15:
  lines w0.1: -0.5,0 0.5,0 ; 0,-0.5 0,0.5 ; -23.4,-23.4 23.4,-23.4 23.4,23.4 -23.4,23.4 -23.4,-23.4
3D body: height 3.4, standoff 0, extent -19.71,-19.71 19.71,19.71

## CQFP63P5677X5677-308M [mm] "CQFP, 308-Leads, Body 52x52mm; Pitch 0.635mm, Gullwing Leadform, IPC Low Density"
height 2.6
pads (308):
  oval 2.55x0.4 smd: 1(-27.875,24.13) 2(-27.875,23.495) 3(-27.875,22.86) 4(-27.875,22.225) 5(-27.875,21.59) 6(-27.875,20.955) 7(-27.875,20.32) 8(-27.875,19.685) 9(-27.875,19.05) 10(-27.875,18.415) 11(-27.875,17.78) 12(-27.875,17.145) 13(-27.875,16.51) 14(-27.875,15.875) 15(-27.875,15.24) 16(-27.875,14.605) 17(-27.875,13.97) 18(-27.875,13.335) 19(-27.875,12.7) 20(-27.875,12.065) 21(-27.875,11.43) 22(-27.875,10.795) 23(-27.875,10.16) 24(-27.875,9.525) 25(-27.875,8.89) 26(-27.875,8.255) 27(-27.875,7.62) 28(-27.875,6.985) 29(-27.875,6.35) 30(-27.875,5.715) 31(-27.875,5.08) 32(-27.875,4.445) 33(-27.875,3.81) 34(-27.875,3.175) 35(-27.875,2.54) 36(-27.875,1.905) 37(-27.875,1.27) 38(-27.875,0.635) 39(-27.875,0) 40(-27.875,-0.635) 41(-27.875,-1.27) 42(-27.875,-1.905) 43(-27.875,-2.54) 44(-27.875,-3.175) 45(-27.875,-3.81) 46(-27.875,-4.445) 47(-27.875,-5.08) 48(-27.875,-5.715) 49(-27.875,-6.35) 50(-27.875,-6.985) 51(-27.875,-7.62) 52(-27.875,-8.255) 53(-27.875,-8.89) 54(-27.875,-9.525) 55(-27.875,-10.16) 56(-27.875,-10.795) 57(-27.875,-11.43) 58(-27.875,-12.065) 59(-27.875,-12.7) 60(-27.875,-13.335) 61(-27.875,-13.97) 62(-27.875,-14.605) 63(-27.875,-15.24) 64(-27.875,-15.875) 65(-27.875,-16.51) 66(-27.875,-17.145) 67(-27.875,-17.78) 68(-27.875,-18.415) 69(-27.875,-19.05) 70(-27.875,-19.685) 71(-27.875,-20.32) 72(-27.875,-20.955) 73(-27.875,-21.59) 74(-27.875,-22.225) 75(-27.875,-22.86) 76(-27.875,-23.495) 77(-27.875,-24.13) 155(27.875,-24.13) 156(27.875,-23.495) 157(27.875,-22.86) 158(27.875,-22.225) 159(27.875,-21.59) 160(27.875,-20.955) 161(27.875,-20.32) 162(27.875,-19.685) 163(27.875,-19.05) 164(27.875,-18.415) 165(27.875,-17.78) 166(27.875,-17.145) 167(27.875,-16.51) 168(27.875,-15.875) 169(27.875,-15.24) 170(27.875,-14.605) 171(27.875,-13.97) 172(27.875,-13.335) 173(27.875,-12.7) 174(27.875,-12.065) 175(27.875,-11.43) 176(27.875,-10.795) 177(27.875,-10.16) 178(27.875,-9.525) 179(27.875,-8.89) 180(27.875,-8.255) 181(27.875,-7.62) 182(27.875,-6.985) 183(27.875,-6.35) 184(27.875,-5.715) 185(27.875,-5.08) 186(27.875,-4.445) 187(27.875,-3.81) 188(27.875,-3.175) 189(27.875,-2.54) 190(27.875,-1.905) 191(27.875,-1.27) 192(27.875,-0.635) 193(27.875,0) 194(27.875,0.635) 195(27.875,1.27) 196(27.875,1.905) 197(27.875,2.54) 198(27.875,3.175) 199(27.875,3.81) 200(27.875,4.445) 201(27.875,5.08) 202(27.875,5.715) 203(27.875,6.35) 204(27.875,6.985) 205(27.875,7.62) 206(27.875,8.255) 207(27.875,8.89) 208(27.875,9.525) 209(27.875,10.16) 210(27.875,10.795) 211(27.875,11.43) 212(27.875,12.065) 213(27.875,12.7) 214(27.875,13.335) 215(27.875,13.97) 216(27.875,14.605) 217(27.875,15.24) 218(27.875,15.875) 219(27.875,16.51) 220(27.875,17.145) 221(27.875,17.78) 222(27.875,18.415) 223(27.875,19.05) 224(27.875,19.685) 225(27.875,20.32) 226(27.875,20.955) 227(27.875,21.59) 228(27.875,22.225) 229(27.875,22.86) 230(27.875,23.495) 231(27.875,24.13)
  oval 0.4x2.55 smd: 78(-24.13,-27.875) 79(-23.495,-27.875) 80(-22.86,-27.875) 81(-22.225,-27.875) 82(-21.59,-27.875) 83(-20.955,-27.875) 84(-20.32,-27.875) 85(-19.685,-27.875) 86(-19.05,-27.875) 87(-18.415,-27.875) 88(-17.78,-27.875) 89(-17.145,-27.875) 90(-16.51,-27.875) 91(-15.875,-27.875) 92(-15.24,-27.875) 93(-14.605,-27.875) 94(-13.97,-27.875) 95(-13.335,-27.875) 96(-12.7,-27.875) 97(-12.065,-27.875) 98(-11.43,-27.875) 99(-10.795,-27.875) 100(-10.16,-27.875) 101(-9.525,-27.875) 102(-8.89,-27.875) 103(-8.255,-27.875) 104(-7.62,-27.875) 105(-6.985,-27.875) 106(-6.35,-27.875) 107(-5.715,-27.875) 108(-5.08,-27.875) 109(-4.445,-27.875) 110(-3.81,-27.875) 111(-3.175,-27.875) 112(-2.54,-27.875) 113(-1.905,-27.875) 114(-1.27,-27.875) 115(-0.635,-27.875) 116(0,-27.875) 117(0.635,-27.875) 118(1.27,-27.875) 119(1.905,-27.875) 120(2.54,-27.875) 121(3.175,-27.875) 122(3.81,-27.875) 123(4.445,-27.875) 124(5.08,-27.875) 125(5.715,-27.875) 126(6.35,-27.875) 127(6.985,-27.875) 128(7.62,-27.875) 129(8.255,-27.875) 130(8.89,-27.875) 131(9.525,-27.875) 132(10.16,-27.875) 133(10.795,-27.875) 134(11.43,-27.875) 135(12.065,-27.875) 136(12.7,-27.875) 137(13.335,-27.875) 138(13.97,-27.875) 139(14.605,-27.875) 140(15.24,-27.875) 141(15.875,-27.875) 142(16.51,-27.875) 143(17.145,-27.875) 144(17.78,-27.875) 145(18.415,-27.875) 146(19.05,-27.875) 147(19.685,-27.875) 148(20.32,-27.875) 149(20.955,-27.875) 150(21.59,-27.875) 151(22.225,-27.875) 152(22.86,-27.875) 153(23.495,-27.875) 154(24.13,-27.875) 232(24.13,27.875) 233(23.495,27.875) 234(22.86,27.875) 235(22.225,27.875) 236(21.59,27.875) 237(20.955,27.875) 238(20.32,27.875) 239(19.685,27.875) 240(19.05,27.875) 241(18.415,27.875) 242(17.78,27.875) 243(17.145,27.875) 244(16.51,27.875) 245(15.875,27.875) 246(15.24,27.875) 247(14.605,27.875) 248(13.97,27.875) 249(13.335,27.875) 250(12.7,27.875) 251(12.065,27.875) 252(11.43,27.875) 253(10.795,27.875) 254(10.16,27.875) 255(9.525,27.875) 256(8.89,27.875) 257(8.255,27.875) 258(7.62,27.875) 259(6.985,27.875) 260(6.35,27.875) 261(5.715,27.875) 262(5.08,27.875) 263(4.445,27.875) 264(3.81,27.875) 265(3.175,27.875) 266(2.54,27.875) 267(1.905,27.875) 268(1.27,27.875) 269(0.635,27.875) 270(0,27.875) 271(-0.635,27.875) 272(-1.27,27.875) 273(-1.905,27.875) 274(-2.54,27.875) 275(-3.175,27.875) 276(-3.81,27.875) 277(-4.445,27.875) 278(-5.08,27.875) 279(-5.715,27.875) 280(-6.35,27.875) 281(-6.985,27.875) 282(-7.62,27.875) 283(-8.255,27.875) 284(-8.89,27.875) 285(-9.525,27.875) 286(-10.16,27.875) 287(-10.795,27.875) 288(-11.43,27.875) 289(-12.065,27.875) 290(-12.7,27.875) 291(-13.335,27.875) 292(-13.97,27.875) 293(-14.605,27.875) 294(-15.24,27.875) 295(-15.875,27.875) 296(-16.51,27.875) 297(-17.145,27.875) 298(-17.78,27.875) 299(-18.415,27.875) 300(-19.05,27.875) 301(-19.685,27.875) 302(-20.32,27.875) 303(-20.955,27.875) 304(-21.59,27.875) 305(-22.225,27.875) 306(-22.86,27.875) 307(-23.495,27.875) 308(-24.13,27.875)
Top Overlay:
  circle w0.25: c-27.875,24.88 r0.125
  lines w0.2: -26.2,23.63 -24.7,23.63 -24.7,24.13 -26.2,24.13 ; -26.2,24.13 -24.13,26.2 24.13,26.2 26.2,24.13 26.2,-24.13 24.13,-26.2 -24.13,-26.2 -26.2,-24.13 -26.2,24.13
Mechanical 13:
  lines w0.1: -26.035,-26.035 26.035,-26.035 26.035,26.035 -26.035,26.035 -26.035,-26.035
Mechanical 15:
  lines w0.1: -0.5,0 0.5,0 ; 0,-0.5 0,0.5 ; -29.65,-29.65 29.65,-29.65 29.65,29.65 -29.65,29.65 -29.65,-29.65
3D body: height 2.6, standoff 0, extent -26.035,-26.035 26.035,26.035

## CQFP63P7201X7201-408M [mm] "408-Pin Ceramic Quad Flat Pack 0.635 mm Pitch"
height 2.5
pads (408):
  oval 2.6x0.45 smd: 1(-35.6,32.067) 2(-35.6,31.432) 3(-35.6,30.797) 4(-35.6,30.162) 5(-35.6,29.527) 6(-35.6,28.892) 7(-35.6,28.258) 8(-35.6,27.622) 9(-35.6,26.987) 10(-35.6,26.352) 11(-35.6,25.717) 12(-35.6,25.082) 13(-35.6,24.447) 14(-35.6,23.812) 15(-35.6,23.177) 16(-35.6,22.543) 17(-35.6,21.907) 18(-35.6,21.273) 19(-35.6,20.637) 20(-35.6,20.002) 21(-35.6,19.367) 22(-35.6,18.732) 23(-35.6,18.098) 24(-35.6,17.462) 25(-35.6,16.828) 26(-35.6,16.192) 27(-35.6,15.557) 28(-35.6,14.922) 29(-35.6,14.287) 30(-35.6,13.652) 31(-35.6,13.018) 32(-35.6,12.383) 33(-35.6,11.747) 34(-35.6,11.112) 35(-35.6,10.477) 36(-35.6,9.842) 37(-35.6,9.207) 38(-35.6,8.572) 39(-35.6,7.938) 40(-35.6,7.302) 41(-35.6,6.667) 42(-35.6,6.032) 43(-35.6,5.397) 44(-35.6,4.763) 45(-35.6,4.127) 46(-35.6,3.492) 47(-35.6,2.857) 48(-35.6,2.222) 49(-35.6,1.587) 50(-35.6,0.953) 51(-35.6,0.318) 52(-35.6,-0.318) 53(-35.6,-0.953) 54(-35.6,-1.587) 55(-35.6,-2.222) 56(-35.6,-2.857) 57(-35.6,-3.492) 58(-35.6,-4.127) 59(-35.6,-4.763) 60(-35.6,-5.397) 61(-35.6,-6.032) 62(-35.6,-6.667) 63(-35.6,-7.302) 64(-35.6,-7.938) 65(-35.6,-8.572) 66(-35.6,-9.207) 67(-35.6,-9.842) 68(-35.6,-10.477) 69(-35.6,-11.112) 70(-35.6,-11.747) 71(-35.6,-12.383) 72(-35.6,-13.018) 73(-35.6,-13.652) 74(-35.6,-14.287) 75(-35.6,-14.922) 76(-35.6,-15.557) 77(-35.6,-16.192) 78(-35.6,-16.828) 79(-35.6,-17.462) 80(-35.6,-18.098) 81(-35.6,-18.732) 82(-35.6,-19.367) 83(-35.6,-20.002) 84(-35.6,-20.637) 85(-35.6,-21.273) 86(-35.6,-21.907) 87(-35.6,-22.543) 88(-35.6,-23.177) 89(-35.6,-23.812) 90(-35.6,-24.447) 91(-35.6,-25.082) 92(-35.6,-25.717) 93(-35.6,-26.352) 94(-35.6,-26.987) 95(-35.6,-27.622) 96(-35.6,-28.258) 97(-35.6,-28.892) 98(-35.6,-29.527) 99(-35.6,-30.162) 100(-35.6,-30.797) 101(-35.6,-31.432) 102(-35.6,-32.067) 205(35.6,-32.067) 206(35.6,-31.432) 207(35.6,-30.797) 208(35.6,-30.162) 209(35.6,-29.527) 210(35.6,-28.892) 211(35.6,-28.258) 212(35.6,-27.622) 213(35.6,-26.987) 214(35.6,-26.352) 215(35.6,-25.717) 216(35.6,-25.082) 217(35.6,-24.447) 218(35.6,-23.812) 219(35.6,-23.177) 220(35.6,-22.543) 221(35.6,-21.907) 222(35.6,-21.273) 223(35.6,-20.637) 224(35.6,-20.002) 225(35.6,-19.367) 226(35.6,-18.732) 227(35.6,-18.098) 228(35.6,-17.462) 229(35.6,-16.828) 230(35.6,-16.192) 231(35.6,-15.557) 232(35.6,-14.922) 233(35.6,-14.287) 234(35.6,-13.652) 235(35.6,-13.018) 236(35.6,-12.383) 237(35.6,-11.747) 238(35.6,-11.112) 239(35.6,-10.477) 240(35.6,-9.842) 241(35.6,-9.207) 242(35.6,-8.572) 243(35.6,-7.938) 244(35.6,-7.302) 245(35.6,-6.667) 246(35.6,-6.032) 247(35.6,-5.397) 248(35.6,-4.763) 249(35.6,-4.127) 250(35.6,-3.492) 251(35.6,-2.857) 252(35.6,-2.222) 253(35.6,-1.587) 254(35.6,-0.953) 255(35.6,-0.318) 256(35.6,0.318) 257(35.6,0.953) 258(35.6,1.587) 259(35.6,2.222) 260(35.6,2.857) 261(35.6,3.492) 262(35.6,4.127) 263(35.6,4.763) 264(35.6,5.397) 265(35.6,6.032) 266(35.6,6.667) 267(35.6,7.302) 268(35.6,7.938) 269(35.6,8.572) 270(35.6,9.207) 271(35.6,9.842) 272(35.6,10.477) 273(35.6,11.112) 274(35.6,11.747) 275(35.6,12.383) 276(35.6,13.018) 277(35.6,13.652) 278(35.6,14.287) 279(35.6,14.922) 280(35.6,15.557) 281(35.6,16.192) 282(35.6,16.828) 283(35.6,17.462) 284(35.6,18.098) 285(35.6,18.732) 286(35.6,19.367) 287(35.6,20.002) 288(35.6,20.637) 289(35.6,21.273) 290(35.6,21.907) 291(35.6,22.543) 292(35.6,23.177) 293(35.6,23.812) 294(35.6,24.447) 295(35.6,25.082) 296(35.6,25.717) 297(35.6,26.352) 298(35.6,26.987) 299(35.6,27.622) 300(35.6,28.258) 301(35.6,28.892) 302(35.6,29.527) 303(35.6,30.162) 304(35.6,30.797) 305(35.6,31.432) 306(35.6,32.067)
  oval 0.45x2.6 smd: 103(-32.067,-35.6) 104(-31.432,-35.6) 105(-30.797,-35.6) 106(-30.162,-35.6) 107(-29.527,-35.6) 108(-28.892,-35.6) 109(-28.258,-35.6) 110(-27.622,-35.6) 111(-26.987,-35.6) 112(-26.352,-35.6) 113(-25.717,-35.6) 114(-25.082,-35.6) 115(-24.447,-35.6) 116(-23.812,-35.6) 117(-23.177,-35.6) 118(-22.543,-35.6) 119(-21.907,-35.6) 120(-21.273,-35.6) 121(-20.637,-35.6) 122(-20.002,-35.6) 123(-19.367,-35.6) 124(-18.732,-35.6) 125(-18.098,-35.6) 126(-17.462,-35.6) 127(-16.828,-35.6) 128(-16.192,-35.6) 129(-15.557,-35.6) 130(-14.922,-35.6) 131(-14.287,-35.6) 132(-13.652,-35.6) 133(-13.018,-35.6) 134(-12.383,-35.6) 135(-11.747,-35.6) 136(-11.112,-35.6) 137(-10.477,-35.6) 138(-9.842,-35.6) 139(-9.207,-35.6) 140(-8.572,-35.6) 141(-7.938,-35.6) 142(-7.302,-35.6) 143(-6.667,-35.6) 144(-6.032,-35.6) 145(-5.397,-35.6) 146(-4.763,-35.6) 147(-4.127,-35.6) 148(-3.492,-35.6) 149(-2.857,-35.6) 150(-2.222,-35.6) 151(-1.587,-35.6) 152(-0.953,-35.6) 153(-0.318,-35.6) 154(0.318,-35.6) 155(0.953,-35.6) 156(1.587,-35.6) 157(2.222,-35.6) 158(2.857,-35.6) 159(3.492,-35.6) 160(4.127,-35.6) 161(4.763,-35.6) 162(5.397,-35.6) 163(6.032,-35.6) 164(6.667,-35.6) 165(7.302,-35.6) 166(7.938,-35.6) 167(8.572,-35.6) 168(9.207,-35.6) 169(9.842,-35.6) 170(10.477,-35.6) 171(11.112,-35.6) 172(11.747,-35.6) 173(12.383,-35.6) 174(13.018,-35.6) 175(13.652,-35.6) 176(14.287,-35.6) 177(14.922,-35.6) 178(15.557,-35.6) 179(16.192,-35.6) 180(16.828,-35.6) 181(17.462,-35.6) 182(18.098,-35.6) 183(18.732,-35.6) 184(19.367,-35.6) 185(20.002,-35.6) 186(20.637,-35.6) 187(21.273,-35.6) 188(21.907,-35.6) 189(22.543,-35.6) 190(23.177,-35.6) 191(23.812,-35.6) 192(24.447,-35.6) 193(25.082,-35.6) 194(25.717,-35.6) 195(26.352,-35.6) 196(26.987,-35.6) 197(27.622,-35.6) 198(28.258,-35.6) 199(28.892,-35.6) 200(29.527,-35.6) 201(30.162,-35.6) 202(30.797,-35.6) 203(31.432,-35.6) 204(32.067,-35.6) 307(32.067,35.6) 308(31.432,35.6) 309(30.797,35.6) 310(30.162,35.6) 311(29.527,35.6) 312(28.892,35.6) 313(28.258,35.6) 314(27.622,35.6) 315(26.987,35.6) 316(26.352,35.6) 317(25.717,35.6) 318(25.082,35.6) 319(24.447,35.6) 320(23.812,35.6) 321(23.177,35.6) 322(22.543,35.6) 323(21.907,35.6) 324(21.273,35.6) 325(20.637,35.6) 326(20.002,35.6) 327(19.367,35.6) 328(18.732,35.6) 329(18.098,35.6) 330(17.462,35.6) 331(16.828,35.6) 332(16.192,35.6) 333(15.557,35.6) 334(14.922,35.6) 335(14.287,35.6) 336(13.652,35.6) 337(13.018,35.6) 338(12.383,35.6) 339(11.747,35.6) 340(11.112,35.6) 341(10.477,35.6) 342(9.842,35.6) 343(9.207,35.6) 344(8.572,35.6) 345(7.938,35.6) 346(7.302,35.6) 347(6.667,35.6) 348(6.032,35.6) 349(5.397,35.6) 350(4.763,35.6) 351(4.127,35.6) 352(3.492,35.6) 353(2.857,35.6) 354(2.222,35.6) 355(1.587,35.6) 356(0.953,35.6) 357(0.318,35.6) 358(-0.318,35.6) 359(-0.953,35.6) 360(-1.587,35.6) 361(-2.222,35.6) 362(-2.857,35.6) 363(-3.492,35.6) 364(-4.127,35.6) 365(-4.763,35.6) 366(-5.397,35.6) 367(-6.032,35.6) 368(-6.667,35.6) 369(-7.302,35.6) 370(-7.938,35.6) 371(-8.572,35.6) 372(-9.207,35.6) 373(-9.842,35.6) 374(-10.477,35.6) 375(-11.112,35.6) 376(-11.747,35.6) 377(-12.383,35.6) 378(-13.018,35.6) 379(-13.652,35.6) 380(-14.287,35.6) 381(-14.922,35.6) 382(-15.557,35.6) 383(-16.192,35.6) 384(-16.828,35.6) 385(-17.462,35.6) 386(-18.098,35.6) 387(-18.732,35.6) 388(-19.367,35.6) 389(-20.002,35.6) 390(-20.637,35.6) 391(-21.273,35.6) 392(-21.907,35.6) 393(-22.543,35.6) 394(-23.177,35.6) 395(-23.812,35.6) 396(-24.447,35.6) 397(-25.082,35.6) 398(-25.717,35.6) 399(-26.352,35.6) 400(-26.987,35.6) 401(-27.622,35.6) 402(-28.258,35.6) 403(-28.892,35.6) 404(-29.527,35.6) 405(-30.162,35.6) 406(-30.797,35.6) 407(-31.432,35.6) 408(-32.067,35.6)
Top Overlay:
  circle w0.25: c-35.6,32.842 r0.125
  lines w0.2: -33.9,31.57 -32.4,31.57 -32.4,32.07 -33.9,32.07 ; -33.9,32.07 -32.07,33.9 32.07,33.9 33.9,32.07 33.9,-32.07 32.07,-33.9 -32.07,-33.9 -33.9,-32.07 -33.9,32.07
Mechanical 13:
  lines w0.1: -33.655,-33.655 33.655,-33.655 33.655,33.655 -33.655,33.655 -33.655,-33.655
Mechanical 15:
  lines w0.1: -0.5,0 0.5,0 ; 0,-0.5 0,0.5 ; -37.4,-37.4 37.4,-37.4 37.4,37.4 -37.4,37.4 -37.4,-37.4
3D body: height 2.5, standoff 0, extent -33.655,-33.655 33.655,33.655